# Altium footprint library MIC29302WT_TO-263-5.PcbLib: 3 footprints
Each footprint in its own frame and in the unit in brackets; x right, y up, seen from the top. Pads: shape width x height; smd on the part's side, far side on the other; paste and mask are expansions set on the pad; w line width, h text height; cw(c..) or ccw(c..) is an arc to the next point about the centre after c.
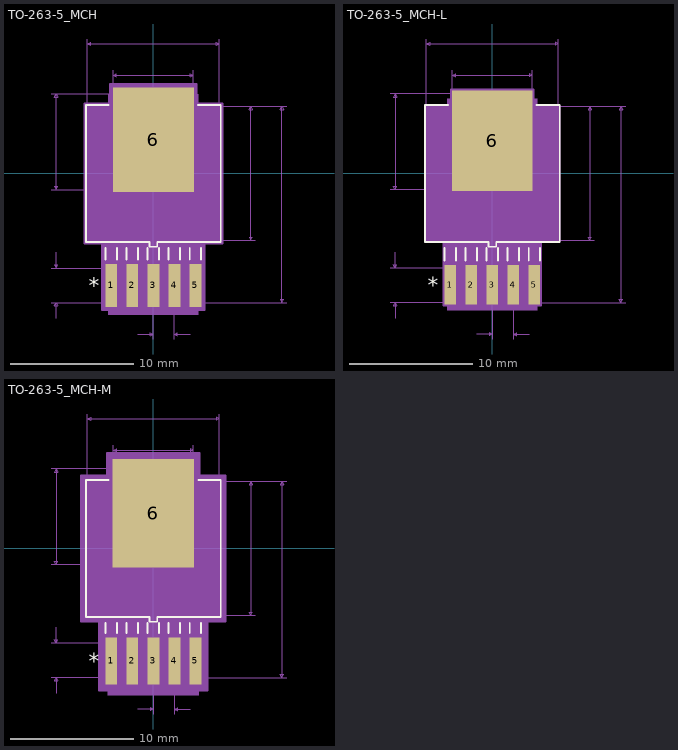
[diagram p0: the footprints below, top view; thin cyan lines are the x and y axes]

## TO-263-5_MCH [mil]
pads (6):
  rect 37.97x137.56 smd paste+0 mask+0: 1(-134,-356.5) 2(-67,-356.5) 3(0,-356.5) 4(67,-356.5) 5(134,-356.5)
  rect 258x333 smd paste+0 mask+0: 6(0,108)
Top Overlay:
  lines w6: -152,-273.72 -152,-237.5 ; -142.1,218.5 -215,218.5 -215,-218.5 -12.5,-218.5 -12.5,-233.5 12.5,-233.5 12.5,-218.5 215,-218.5 215,218.5 142.1,218.5 ; -116,-273.72 -116,-237.5 ; -85,-273.72 -85,-237.5 ; -49,-273.72 -49,-237.5 ; -18,-273.72 -18,-237.5 ; 18,-273.72 18,-237.5 ; 49,-273.72 49,-237.5 ; 85,-273.72 85,-237.5 ; 116,-273.72 116,-237.5 ; 152,-273.72 152,-237.5
  text "*" at -205,-381.5 h50
Mechanical 5:
  region: -144,252.5 144,252.5 144,-450.28 -144,-450.28
Mechanical 7:
  lines w1: -325,-411.5 0,-411.5 425,-411.5 ; -325,-301.5 0,-301.5 ; -325,-51.5 0,-51.5 ; -325,253.5 0,253.5 ; -310,-461.5 -310,-411.5 ; -310,-251.5 -310,-301.5 ; -210,0 -210,428.5 ; -128,0 -128,328.5 ; -50,-512.5 0,-512.5 ; 0,-527.5 0,-312.5 ; 0,-213.5 325,-213.5 ; 67,-527.5 67,-312.5 ; 117,-512.5 67,-512.5 ; 128,0 128,328.5 ; 210,0 210,428.5 ; 325,213.5 0,213.5 425,213.5 ; -310,-411.5 -305,-421.5 -315,-421.5 -310,-411.5 ; -310,-301.5 -305,-291.5 -315,-291.5 -310,-301.5 ; -310,-51.5 -305,-41.5 -315,-41.5 -310,-51.5 ; -310,-51.5 -310,253.5 ; -310,253.5 -305,243.5 -315,243.5 -310,253.5 ; -210,413.5 -200,408.5 -200,418.5 -210,413.5 ; -210,413.5 210,413.5 ; -128,313.5 -118,308.5 -118,318.5 -128,313.5 ; -128,313.5 128,313.5 ; 0,-512.5 -10,-517.5 -10,-507.5 0,-512.5 ; 67,-512.5 77,-517.5 77,-507.5 67,-512.5 ; 128,313.5 118,308.5 118,318.5 128,313.5 ; 210,413.5 200,408.5 200,418.5 210,413.5 ; 310,-213.5 315,-203.5 305,-203.5 310,-213.5 ; 310,-213.5 310,213.5 ; 310,213.5 315,203.5 305,203.5 310,213.5 ; 410,-411.5 415,-401.5 405,-401.5 410,-411.5 ; 410,-411.5 410,213.5 ; 410,213.5 415,203.5 405,203.5 410,213.5
  text "0.067in/1.702mm" at -60.25,-557.5 h25
  text "0.11in/2.794mm" at -505,-369 h25
  text "0.625in/15.875mm" at 430,-155.5 h25
  text "0.256in/6.502mm" at -93.75,333.5 h25
  text "0.42in/10.668mm" at -93.75,433.5 h25
  text "0.305in/7.747mm" at -517.5,88.5 h25
  text "0.427in/10.846mm" at 330,-12.5 h25
  text "Alt 2 Padstyle: b229_152h76" at -337.5,-986.5 h50
  text "Alt 1 Padstyle: b152_229h76" at -337.5,-911.5 h50
  text "Large Padstyle: r655_846" at -300,-836.5 h50
  text "Default Padstyle: r96_349" at -312.5,-761.5 h50
Mechanical 13:
  lines w1: -210,-213.5 -210,213.5 210,213.5 210,-213.5 -210,-213.5 ; -152,-411.5 -116,-411.5 -116,-213.5 -152,-213.5 -152,-411.5 ; -85,-411.5 -49,-411.5 -49,-213.5 -85,-213.5 -85,-411.5 ; -18,-411.5 18,-411.5 18,-213.5 -18,-213.5 -18,-411.5 ; -7.5,-228.5 7.5,-228.5 7.5,-213.5 -7.5,-213.5 -7.5,-228.5 ; 49,-411.5 85,-411.5 85,-213.5 49,-213.5 49,-411.5 ; 116,-411.5 152,-411.5 152,-213.5 116,-213.5 116,-411.5
  text "*" at -146.5,-228.5 h50
Mechanical 15:
  region: -220,-223.5 -220,223.5 -138,223.5 -138,284.5 138,284.5 138,223.5 220,223.5 220,-223.5 162.98,-223.5 162.98,-435.28 -162.98,-435.28 -162.98,-223.5
  lines w6: -220,-223.5 -162.98,-223.5 -162.98,-435.28 162.98,-435.28 162.98,-223.5 220,-223.5 220,223.5 138,223.5 138,284.5 -138,284.5 -138,223.5 -220,223.5 -220,-223.5
3D body "MIC29302WT_TO-263-5.step": height 181.1, standoff -2.01, extent -209.99,-411.49 210.01,253.51
3D body: height 10, standoff 0, extent 0,0 10,10

## TO-263-5_MCH-L [mil]
pads (6):
  rect 36x125.75 smd paste+0 mask+0: 1(-134,-354.53) 2(-67,-354.53) 3(0,-354.53) 4(67,-354.53) 5(134,-354.53)
  rect 256x321 smd paste+0 mask+0: 6(0,104)
Top Overlay:
  lines w6: -152,-277.66 -152,-237.5 ; -141.1,218.5 -215,218.5 -215,-218.5 -12.5,-218.5 -12.5,-233.5 12.5,-233.5 12.5,-218.5 215,-218.5 215,218.5 141.1,218.5 ; -116,-277.66 -116,-237.5 ; -85,-277.66 -85,-237.5 ; -49,-277.66 -49,-237.5 ; -18,-277.66 -18,-237.5 ; 18,-277.66 18,-237.5 ; 49,-277.66 49,-237.5 ; 85,-277.66 85,-237.5 ; 116,-277.66 116,-237.5 ; 152,-277.66 152,-237.5
  text "*" at -205,-379.53 h50
Mechanical 5:
  region: -143,238.5 143,238.5 143,-436.41 -143,-436.41
Mechanical 7:
  lines w1: -325,-411.5 0,-411.5 425,-411.5 ; -325,-301.5 0,-301.5 ; -325,-51.5 0,-51.5 ; -325,253.5 0,253.5 ; -310,-461.5 -310,-411.5 ; -310,-251.5 -310,-301.5 ; -210,0 -210,428.5 ; -128,0 -128,328.5 ; -50,-512.5 0,-512.5 ; 0,-527.5 0,-312.5 ; 0,-213.5 325,-213.5 ; 67,-527.5 67,-312.5 ; 117,-512.5 67,-512.5 ; 128,0 128,328.5 ; 210,0 210,428.5 ; 325,213.5 0,213.5 425,213.5 ; -310,-411.5 -315,-421.5 -305,-421.5 -310,-411.5 ; -310,-301.5 -315,-291.5 -305,-291.5 -310,-301.5 ; -310,-51.5 -310,253.5 ; -310,-51.5 -315,-41.5 -305,-41.5 -310,-51.5 ; -310,253.5 -315,243.5 -305,243.5 -310,253.5 ; -210,413.5 210,413.5 ; -210,413.5 -200,418.5 -200,408.5 -210,413.5 ; -128,313.5 128,313.5 ; -128,313.5 -118,318.5 -118,308.5 -128,313.5 ; 0,-512.5 -10,-507.5 -10,-517.5 0,-512.5 ; 67,-512.5 77,-507.5 77,-517.5 67,-512.5 ; 128,313.5 118,318.5 118,308.5 128,313.5 ; 210,413.5 200,418.5 200,408.5 210,413.5 ; 310,-213.5 310,213.5 ; 310,-213.5 305,-203.5 315,-203.5 310,-213.5 ; 310,213.5 305,203.5 315,203.5 310,213.5 ; 410,-411.5 410,213.5 ; 410,-411.5 405,-401.5 415,-401.5 410,-411.5 ; 410,213.5 405,203.5 415,203.5 410,213.5
  text "Default Padstyle: r91_319" at -312.5,-761.5 h50
  text "Large Padstyle: r650_815" at -300,-836.5 h50
  text "Alt 1 Padstyle: b152_229h76" at -337.5,-911.5 h50
  text "Alt 2 Padstyle: b229_152h76" at -337.5,-986.5 h50
  text "0.427in/10.846mm" at 330,-12.5 h25
  text "0.305in/7.747mm" at -517.5,88.5 h25
  text "0.42in/10.668mm" at -93.75,433.5 h25
  text "0.256in/6.502mm" at -93.75,333.5 h25
  text "0.625in/15.875mm" at 430,-153.53 h25
  text "0.11in/2.794mm" at -505,-369 h25
  text "0.067in/1.702mm" at -60.25,-557.5 h25
Mechanical 13:
  lines w1: -210,-213.5 210,-213.5 210,213.5 -210,213.5 -210,-213.5 ; -152,-411.5 -152,-213.5 -116,-213.5 -116,-411.5 -152,-411.5 ; -85,-411.5 -85,-213.5 -49,-213.5 -49,-411.5 -85,-411.5 ; -18,-411.5 -18,-213.5 18,-213.5 18,-411.5 -18,-411.5 ; -7.5,-228.5 -7.5,-213.5 7.5,-213.5 7.5,-228.5 -7.5,-228.5 ; 49,-411.5 49,-213.5 85,-213.5 85,-411.5 49,-411.5 ; 116,-411.5 116,-213.5 152,-213.5 152,-411.5 116,-411.5
  text "*" at -146.5,-228.5 h50
Mechanical 15:
  region: -214,-217.5 -214,217.5 -132,217.5 -132,268.5 132,268.5 132,217.5 214,217.5 214,-217.5 156,-217.5 156,-421.41 -156,-421.41 -156,-217.5
  lines w6: -214,-217.5 -214,217.5 -132,217.5 -132,268.5 132,268.5 132,217.5 214,217.5 214,-217.5 156,-217.5 156,-421.41 -156,-421.41 -156,-217.5 -214,-217.5
3D body: height 10, standoff 0, extent 0,0 10,10

## TO-263-5_MCH-M [mil]
pads (6):
  rect 37.97x149.37 smd paste+0 mask+0: 1(-134,-358.47) 2(-67,-358.47) 3(0,-358.47) 4(67,-358.47) 5(134,-358.47)
  rect 260x345 smd paste+0 mask+0: 6(0,112)
Top Overlay:
  lines w6: -152,-269.78 -152,-237.5 ; -143.1,218.5 -215,218.5 -215,-218.5 -12.5,-218.5 -12.5,-233.5 12.5,-233.5 12.5,-218.5 215,-218.5 215,218.5 143.1,218.5 ; -116,-269.78 -116,-237.5 ; -85,-269.78 -85,-237.5 ; -49,-269.78 -49,-237.5 ; -18,-269.78 -18,-237.5 ; 18,-269.78 18,-237.5 ; 49,-269.78 49,-237.5 ; 85,-269.78 85,-237.5 ; 116,-269.78 116,-237.5 ; 152,-269.78 152,-237.5
  text "*" at -205,-383.47 h50
Mechanical 5:
  region: -145,270.5 145,270.5 145,-468.15 -145,-468.15
Mechanical 7:
  lines w1: -325,-411.5 0,-411.5 425,-411.5 ; -325,-301.5 0,-301.5 ; -325,-51.5 0,-51.5 ; -325,253.5 0,253.5 ; -310,-461.5 -310,-411.5 ; -310,-251.5 -310,-301.5 ; -210,0 -210,428.5 ; -128,0 -128,328.5 ; -50,-512.5 0,-512.5 ; 0,-527.5 0,-312.5 ; 0,-213.5 325,-213.5 ; 67,-527.5 67,-312.5 ; 117,-512.5 67,-512.5 ; 128,0 128,328.5 ; 210,0 210,428.5 ; 325,213.5 0,213.5 425,213.5 ; -310,-411.5 -315,-421.5 -305,-421.5 -310,-411.5 ; -310,-301.5 -315,-291.5 -305,-291.5 -310,-301.5 ; -310,-51.5 -310,253.5 ; -310,-51.5 -315,-41.5 -305,-41.5 -310,-51.5 ; -310,253.5 -315,243.5 -305,243.5 -310,253.5 ; -210,413.5 210,413.5 ; -210,413.5 -200,418.5 -200,408.5 -210,413.5 ; -128,313.5 128,313.5 ; -128,313.5 -118,318.5 -118,308.5 -128,313.5 ; 0,-512.5 -10,-507.5 -10,-517.5 0,-512.5 ; 67,-512.5 77,-507.5 77,-517.5 67,-512.5 ; 128,313.5 118,318.5 118,308.5 128,313.5 ; 210,413.5 200,418.5 200,408.5 210,413.5 ; 310,-213.5 310,213.5 ; 310,-213.5 305,-203.5 315,-203.5 310,-213.5 ; 310,213.5 305,203.5 315,203.5 310,213.5 ; 410,-411.5 410,213.5 ; 410,-411.5 405,-401.5 415,-401.5 410,-411.5 ; 410,213.5 405,203.5 415,203.5 410,213.5
  text "Default Padstyle: r96_379" at -312.5,-761.5 h50
  text "Large Padstyle: r660_876" at -300,-836.5 h50
  text "Alt 1 Padstyle: b152_229h76" at -337.5,-911.5 h50
  text "Alt 2 Padstyle: b229_152h76" at -337.5,-986.5 h50
  text "0.427in/10.846mm" at 330,-12.5 h25
  text "0.305in/7.747mm" at -517.5,88.5 h25
  text "0.42in/10.668mm" at -93.75,433.5 h25
  text "0.256in/6.502mm" at -93.75,333.5 h25
  text "0.625in/15.875mm" at 430,-157.47 h25
  text "0.11in/2.794mm" at -505,-369 h25
  text "0.067in/1.702mm" at -60.25,-557.5 h25
Mechanical 13:
  lines w1: -210,-213.5 210,-213.5 210,213.5 -210,213.5 -210,-213.5 ; -152,-411.5 -152,-213.5 -116,-213.5 -116,-411.5 -152,-411.5 ; -85,-411.5 -85,-213.5 -49,-213.5 -49,-411.5 -85,-411.5 ; -18,-411.5 -18,-213.5 18,-213.5 18,-411.5 -18,-411.5 ; -7.5,-228.5 -7.5,-213.5 7.5,-213.5 7.5,-228.5 -7.5,-228.5 ; 49,-411.5 49,-213.5 85,-213.5 85,-411.5 49,-411.5 ; 116,-411.5 116,-213.5 152,-213.5 152,-411.5 116,-411.5
  text "*" at -146.5,-228.5 h50
Mechanical 15:
  region: -230,-233.5 -230,233.5 -148,233.5 -148,304.5 148,304.5 148,233.5 230,233.5 230,-233.5 172.98,-233.5 172.98,-453.15 -172.98,-453.15 -172.98,-233.5
  lines w6: -230,-233.5 -230,233.5 -148,233.5 -148,304.5 148,304.5 148,233.5 230,233.5 230,-233.5 172.98,-233.5 172.98,-453.15 -172.98,-453.15 -172.98,-233.5 -230,-233.5
3D body: height 10, standoff 0, extent 0,0 10,10